# EAGLE library part MM74HC165N (library Fairchild_By_element14_Batch_1)
8-Bit Shift Register
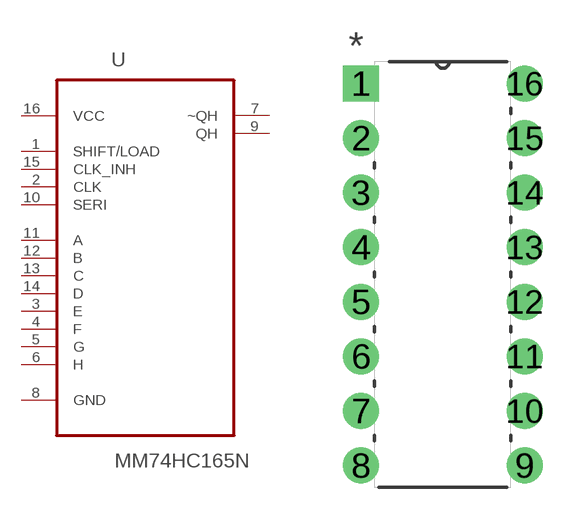
[diagram p259: symbol with the pads of DIP254P762X508-16; footprint DIP254P762X508-16]

Designator prefix U

## MM74HC165N (MPN: MM74HC165N; OC_FARNELL: 1013928; OC_NEWARK: 18C7619; PACKAGE: PDIP-16; SUPPLIER: Fairchild)  [DIP254P762X508-16]
1  SHIFT/LOAD  in
2  CLK  in
3  E  in
4  F  in
5  G  in
6  H  in
7  ~QH  out
8  GND  pas
9  QH  out
10  SERI  in
11  A  in
12  B  in
13  C  in
14  D  in
15  CLK_INH  in
16  VCC  pwr

## Footprint DIP254P762X508-16 (pad centres in mm)
drill 1.118 square: 1 -7.62,17.78
drill 1.118: 2 -7.62,15.24; 3 -7.62,12.7; 4 -7.62,10.16; 5 -7.62,7.62; 6 -7.62,5.08; 7 -7.62,2.54; 8 -7.62,0; 9 0,0; 10 0,2.54; 11 0,5.08; 12 0,7.62; 13 0,10.16; 14 0,12.7; 15 0,15.24; 16 0,17.78